# EAGLE library part MICRO-SD (library Domino)
Micro SD Memory Card Connector, With Card Detect Switch
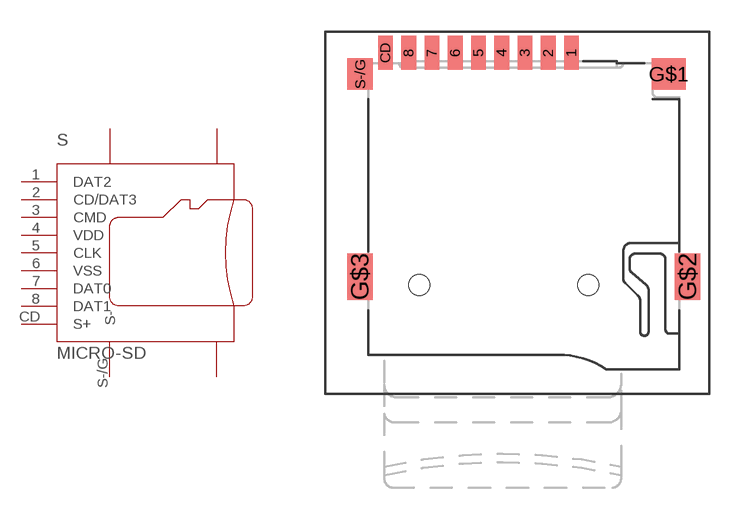
[diagram p2: symbol with the pads of SD-007; footprint SD-007]

Designator prefix S

## MICRO-SD  [SD-007]
1  DAT2
2  CD/DAT3
3  CMD  in
4  VDD  pwr
5  CLK  in
6  VSS  pwr
7  DAT0
8  DAT1
CD  S+  out
G$1  G  pwr
G$2  G  pwr
G$3  G  pwr
S-/G  S-  pwr

## Footprint SD-007 (pad centres in mm)
T-F Card Push Push
smd 0.7 x 1.6: 1 2.25,15; 2 1.15,15; 3 0.05,15; 4 -1.05,15; 5 -2.15,15; 6 -3.25,15; 7 -4.35,15; 8 -5.45,15; CD -6.55,15
smd 1.6 x 1.5: G$1 6.85,14
smd 1.2 x 2.2: G$2 7.75,4.4; G$3 -7.75,4.4
smd 1.2 x 1.5: S-/G -7.75,14
hole 1 at -4.95,4
hole 1 at 3.05,4